# EAGLE library part AMS00X (library AMS00x)
ACKme Networks AMS00x Bluetooth LE Module AMS001 : low power AMS002 : low cost
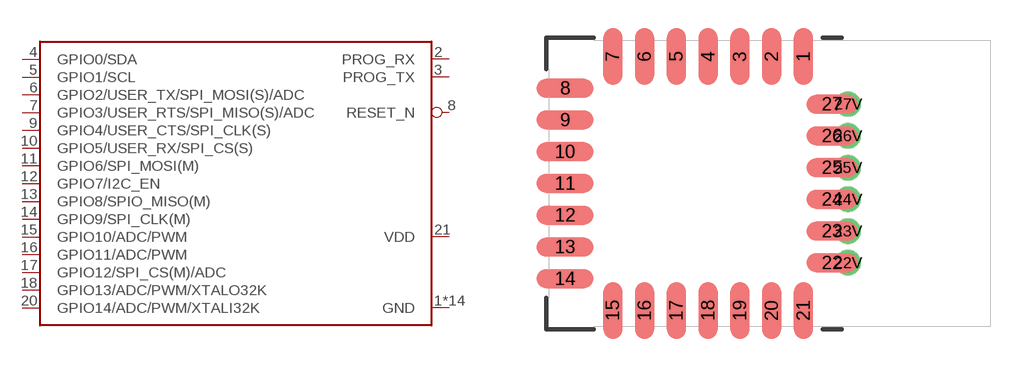
[diagram p0: symbol with the pads of AMS00X; footprint AMS00X]

Designator prefix A

## AMS00X  [AMS00X]
1  GND  pwr
2  PROG_RX  in
3  PROG_TX  out
4  GPIO0/SDA
5  GPIO1/SCL
6  GPIO2/USER_TX/SPI_MOSI(S)/ADC
7  GPIO3/USER_RTS/SPI_MISO(S)/ADC
8  RESET_N  in
9  GPIO4/USER_CTS/SPI_CLK(S)
10  GPIO5/USER_RX/SPI_CS(S)
11  GPIO6/SPI_MOSI(M)
12  GPIO7/I2C_EN
13  GPIO8/SPIO_MISO(M)
14  GPIO9/SPI_CLK(M)
15  GPIO10/ADC/PWM
16  GPIO11/ADC/PWM
17  GPIO12/SPI_CS(M)/ADC
18  GPIO13/ADC/PWM/XTALO32K
19  GND  pwr
20  GPIO14/ADC/PWM/XTALI32K
21  VDD  pwr
22  GND  pwr
22V  GND  pwr
23  GND  pwr
23V  GND  pwr
24  GND  pwr
24V  GND  pwr
25  GND  pwr
25V  GND  pwr
26  GND  pwr
26V  GND  pwr
27  GND  pwr
27V  GND  pwr

## Footprint AMS00X (pad centres in mm)
ACKme Networks AMS00x Bluetooth LE Module Device should be placed so that the 20 mil vias are centered on the board edge. To run a bottom layer ground plane right up to the board edge, you will need to set Copper/Dimension in the Distance tab of the DRC dialog to zero. Place a polygon on layer 16 under pads 22 to 27 and turn off Thermals.
smd 0.762 x 2.286: 1 3.81,5.08; 2 2.54,5.08; 3 1.27,5.08; 4 0,5.08; 5 -1.27,5.08; 6 -2.54,5.08; 7 -3.81,5.08; 15 -3.81,-5.08; 16 -2.54,-5.08; 17 -1.27,-5.08; 18 0,-5.08; 19 1.27,-5.08; 20 2.54,-5.08; 21 3.81,-5.08
smd 2.286 x 0.762: 8 -5.715,3.81; 9 -5.715,2.54; 10 -5.715,1.27; 11 -5.715,0; 12 -5.715,-1.27; 13 -5.715,-2.54; 14 -5.715,-3.81
smd 2.032 x 0.762: 22 4.953,-3.175; 23 4.953,-1.905; 24 4.953,-0.635; 25 4.953,0.635; 26 4.953,1.905; 27 4.953,3.175
drill 0.508 pad 1.016: 22V 5.588,-3.175; 23V 5.588,-1.905; 24V 5.588,-0.635; 25V 5.588,0.635; 26V 5.588,1.905; 27V 5.588,3.175